# Altium footprint library SMD Active.PcbLib: 72 footprints (part 3 of 8)
Each footprint in its own frame and in the unit in brackets; x right, y up, seen from the top. Pads: shape width x height; smd on the part's side, far side on the other; paste and mask are expansions set on the pad; w line width, h text height; cw(c..) or ccw(c..) is an arc to the next point about the centre after c.
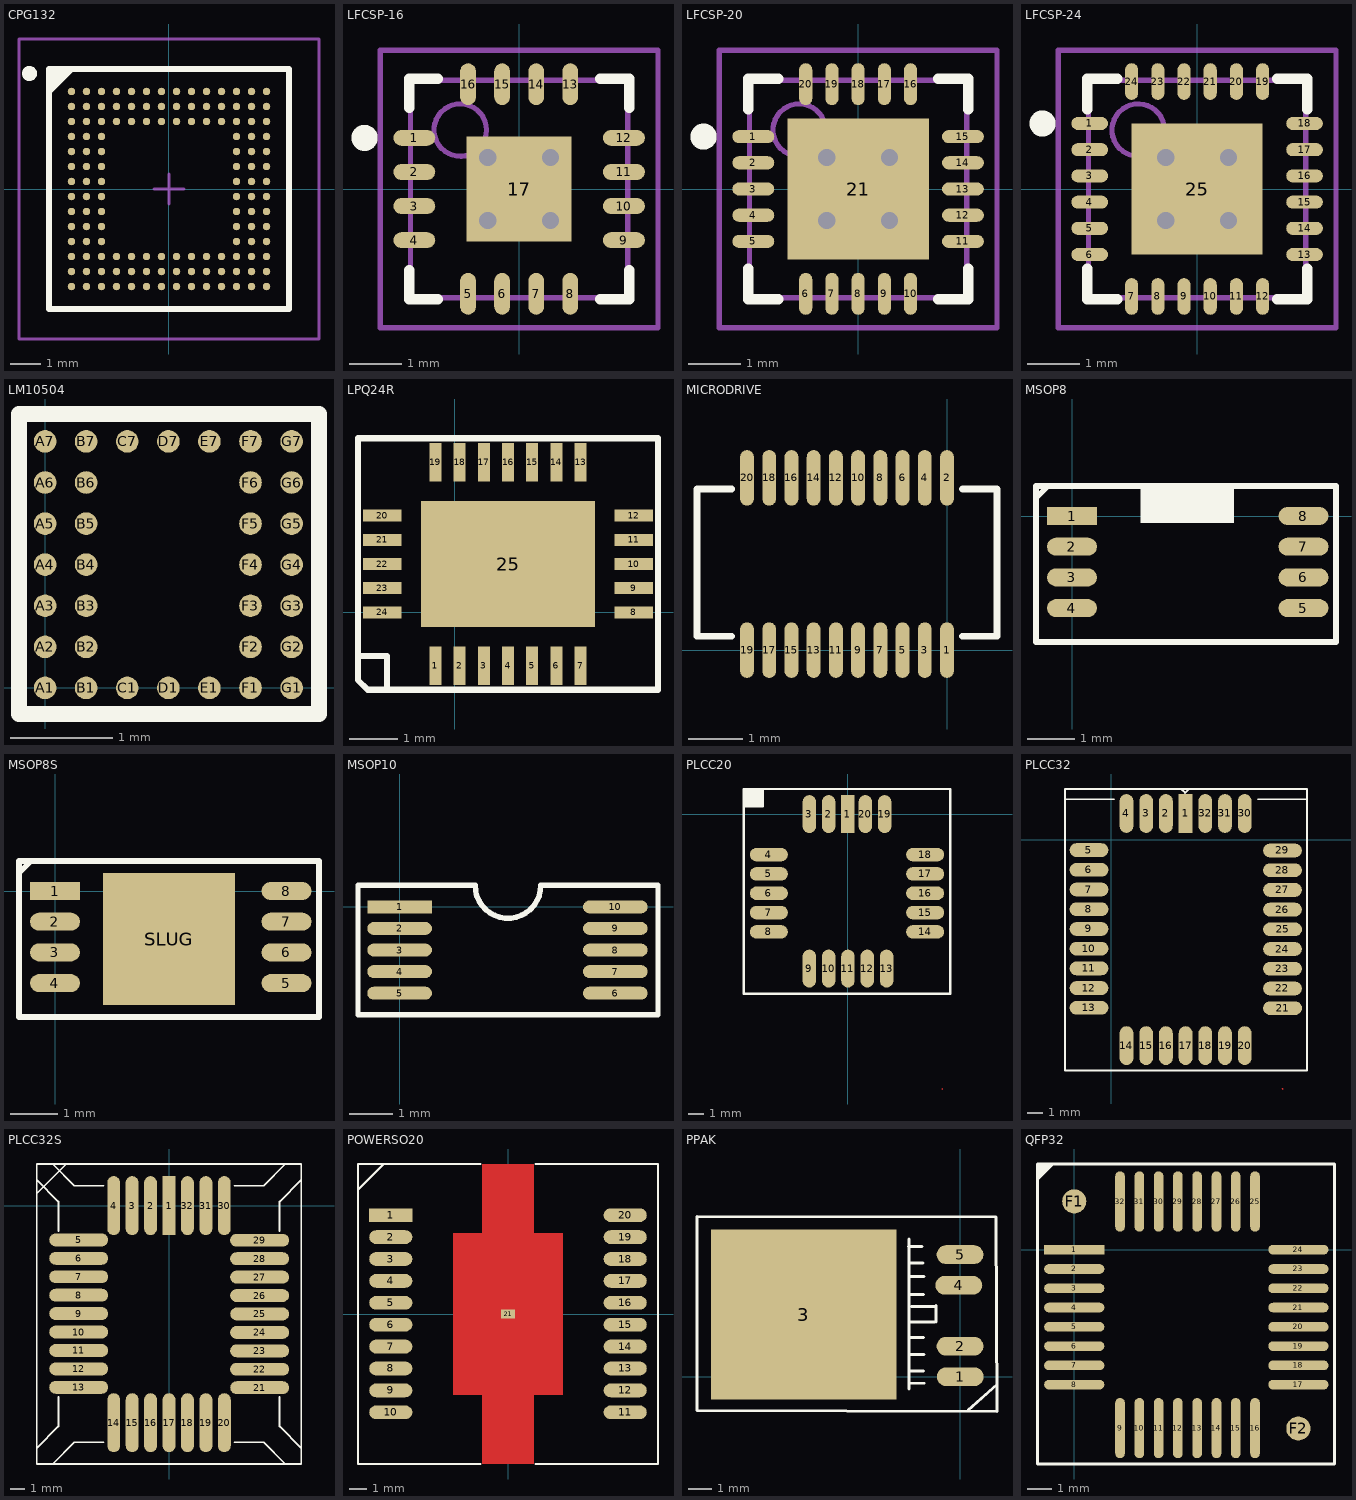
[diagram p2: the footprints below, top view; thin cyan lines are the x and y axes]

## CPG132 [mm] "BGA, 132-Leads, Body 8x8mm, Pitch 0.5mm"
height 1.1
pads (132):
  round 0.25 smd: A1(-3.25,3.25) A2(-2.75,3.25) A3(-2.25,3.25) A4(-1.75,3.25) A5(-1.25,3.25) A6(-0.75,3.25) A7(-0.25,3.25) A8(0.25,3.25) A9(0.75,3.25) A10(1.25,3.25) A11(1.75,3.25) A12(2.25,3.25) A13(2.75,3.25) A14(3.25,3.25) B1(-3.25,2.75) B2(-2.75,2.75) B3(-2.25,2.75) B4(-1.75,2.75) B5(-1.25,2.75) B6(-0.75,2.75) B7(-0.25,2.75) B8(0.25,2.75) B9(0.75,2.75) B10(1.25,2.75) B11(1.75,2.75) B12(2.25,2.75) B13(2.75,2.75) B14(3.25,2.75) C1(-3.25,2.25) C2(-2.75,2.25) C3(-2.25,2.25) C4(-1.75,2.25) C5(-1.25,2.25) C6(-0.75,2.25) C7(-0.25,2.25) C8(0.25,2.25) C9(0.75,2.25) C10(1.25,2.25) C11(1.75,2.25) C12(2.25,2.25) C13(2.75,2.25) C14(3.25,2.25) D1(-3.25,1.75) D2(-2.75,1.75) D3(-2.25,1.75) D12(2.25,1.75) D13(2.75,1.75) D14(3.25,1.75) E1(-3.25,1.25) E2(-2.75,1.25) E3(-2.25,1.25) E12(2.25,1.25) E13(2.75,1.25) E14(3.25,1.25) F1(-3.25,0.75) F2(-2.75,0.75) F3(-2.25,0.75) F12(2.25,0.75) F13(2.75,0.75) F14(3.25,0.75) G1(-3.25,0.25) G2(-2.75,0.25) G3(-2.25,0.25) G12(2.25,0.25) G13(2.75,0.25) G14(3.25,0.25) H1(-3.25,-0.25) H2(-2.75,-0.25) H3(-2.25,-0.25) H12(2.25,-0.25) H13(2.75,-0.25) H14(3.25,-0.25) J1(-3.25,-0.75) J2(-2.75,-0.75) J3(-2.25,-0.75) J12(2.25,-0.75) J13(2.75,-0.75) J14(3.25,-0.75) K1(-3.25,-1.25) K2(-2.75,-1.25) K3(-2.25,-1.25) K12(2.25,-1.25) K13(2.75,-1.25) K14(3.25,-1.25) L1(-3.25,-1.75) L2(-2.75,-1.75) L3(-2.25,-1.75) L12(2.25,-1.75) L13(2.75,-1.75) L14(3.25,-1.75) M1(-3.25,-2.25) M2(-2.75,-2.25) M3(-2.25,-2.25) M4(-1.75,-2.25) M5(-1.25,-2.25) M6(-0.75,-2.25) M7(-0.25,-2.25) M8(0.25,-2.25) M9(0.75,-2.25) M10(1.25,-2.25) M11(1.75,-2.25) M12(2.25,-2.25) M13(2.75,-2.25) M14(3.25,-2.25) N1(-3.25,-2.75) N2(-2.75,-2.75) N3(-2.25,-2.75) N4(-1.75,-2.75) N5(-1.25,-2.75) N6(-0.75,-2.75) N7(-0.25,-2.75) N8(0.25,-2.75) N9(0.75,-2.75) N10(1.25,-2.75) N11(1.75,-2.75) N12(2.25,-2.75) N13(2.75,-2.75) N14(3.25,-2.75) P1(-3.25,-3.25) P2(-2.75,-3.25) P3(-2.25,-3.25) P4(-1.75,-3.25) P5(-1.25,-3.25) P6(-0.75,-3.25) P7(-0.25,-3.25) P8(0.25,-3.25) P9(0.75,-3.25) P10(1.25,-3.25) P11(1.75,-3.25) P12(2.25,-3.25) P13(2.75,-3.25) P14(3.25,-3.25)
Top Overlay:
  circle w0.25: c-4.65,3.85 r0.125
  region: -3.242,4 -4,3.242 -4,4
  lines w0.2: -4,3.242 -3.242,4 ; -4,-4 -4,4 4,4 4,-4 -4,-4
Mechanical 13:
  lines w0.1: -4,-4 -4,4 4,4 4,-4 -4,-4
Mechanical 15:
  lines w0.1: -0.5,0 0.5,0 ; 0,-0.5 0,0.5 ; -5,-5 -5,5 5,5 5,-5 -5,-5
3D body: height 0.23, standoff -0.03, extent 1.119,3.126 1.372,3.378
3D body: height 0.23, standoff -0.03, extent 1.119,2.618 1.372,2.87
3D body: height 0.23, standoff -0.03, extent 1.119,2.135 1.372,2.388
3D body: height 0.23, standoff -0.03, extent 1.627,2.135 1.88,2.388
3D body: height 0.23, standoff -0.03, extent 1.627,2.618 1.88,2.87
3D body: height 0.23, standoff -0.03, extent 1.627,3.126 1.88,3.378
3D body: height 0.23, standoff -0.03, extent 0.636,2.135 0.889,2.388
3D body: height 0.23, standoff -0.03, extent 0.636,2.618 0.889,2.87
3D body: height 0.23, standoff -0.03, extent 0.636,3.126 0.889,3.378
3D body: height 0.23, standoff -0.03, extent 0.128,2.135 0.381,2.388
3D body: height 0.23, standoff -0.03, extent 0.128,2.618 0.381,2.87
3D body: height 0.23, standoff -0.03, extent 0.128,3.126 0.381,3.378
3D body: height 0.23, standoff -0.03, extent -0.38,2.135 -0.127,2.388
3D body: height 0.23, standoff -0.03, extent -0.38,2.618 -0.127,2.87
3D body: height 0.23, standoff -0.03, extent -0.38,3.126 -0.127,3.378
3D body: height 0.23, standoff -0.03, extent -0.888,2.135 -0.635,2.388
3D body: height 0.23, standoff -0.03, extent -0.888,2.618 -0.635,2.87
3D body: height 0.23, standoff -0.03, extent -0.888,3.126 -0.635,3.378
3D body: height 0.23, standoff -0.03, extent -1.371,2.135 -1.118,2.388
3D body: height 0.23, standoff -0.03, extent -1.371,2.618 -1.118,2.87
3D body: height 0.23, standoff -0.03, extent -1.371,3.126 -1.118,3.378
3D body: height 0.23, standoff -0.03, extent -1.879,2.135 -1.626,2.388
3D body: height 0.23, standoff -0.03, extent -1.879,2.618 -1.626,2.87
3D body: height 0.23, standoff -0.03, extent -1.879,3.126 -1.626,3.378
3D body: height 0.23, standoff -0.03, extent -2.387,2.135 -2.134,2.388
3D body: height 0.23, standoff -0.03, extent -2.387,2.618 -2.134,2.87
3D body: height 0.23, standoff -0.03, extent -2.387,3.126 -2.134,3.378
3D body: height 0.23, standoff -0.03, extent -2.869,2.135 -2.616,2.388
3D body: height 0.23, standoff -0.03, extent -2.869,2.618 -2.616,2.87
3D body: height 0.23, standoff -0.03, extent -2.869,3.126 -2.616,3.378
3D body: height 0.23, standoff -0.03, extent -3.377,2.135 -3.124,2.388
3D body: height 0.23, standoff -0.03, extent -3.377,2.618 -3.124,2.87
3D body: height 0.23, standoff -0.03, extent -3.377,3.126 -3.124,3.378
3D body: height 0.23, standoff -0.03, extent 3.126,-1.372 3.378,-1.119
3D body: height 0.23, standoff -0.03, extent 2.618,-1.372 2.87,-1.119
3D body: height 0.23, standoff -0.03, extent 2.135,-1.372 2.388,-1.119
3D body: height 0.23, standoff -0.03, extent 2.135,-1.88 2.388,-1.627
3D body: height 0.23, standoff -0.03, extent 2.618,-1.88 2.87,-1.627
3D body: height 0.23, standoff -0.03, extent 3.126,-1.88 3.378,-1.627
3D body: height 0.23, standoff -0.03, extent 2.135,-0.889 2.388,-0.636
3D body: height 0.23, standoff -0.03, extent 2.618,-0.889 2.87,-0.636
3D body: height 0.23, standoff -0.03, extent 3.126,-0.889 3.378,-0.636
3D body: height 0.23, standoff -0.03, extent 2.135,-0.381 2.388,-0.128
3D body: height 0.23, standoff -0.03, extent 2.618,-0.381 2.87,-0.128
3D body: height 0.23, standoff -0.03, extent 3.126,-0.381 3.378,-0.128
3D body: height 0.23, standoff -0.03, extent 2.135,0.127 2.388,0.38
3D body: height 0.23, standoff -0.03, extent 2.618,0.127 2.87,0.38
3D body: height 0.23, standoff -0.03, extent 3.126,0.127 3.378,0.38
3D body: height 0.23, standoff -0.03, extent 2.135,0.635 2.388,0.888
3D body: height 0.23, standoff -0.03, extent 2.618,0.635 2.87,0.888
3D body: height 0.23, standoff -0.03, extent 3.126,0.635 3.378,0.888
3D body: height 0.23, standoff -0.03, extent 2.135,1.118 2.388,1.371
3D body: height 0.23, standoff -0.03, extent 2.618,1.118 2.87,1.371
3D body: height 0.23, standoff -0.03, extent 3.126,1.118 3.378,1.371
3D body: height 0.23, standoff -0.03, extent 2.135,1.626 2.388,1.879
3D body: height 0.23, standoff -0.03, extent 2.618,1.626 2.87,1.879
3D body: height 0.23, standoff -0.03, extent 3.126,1.626 3.378,1.879
3D body: height 0.23, standoff -0.03, extent 2.135,2.134 2.388,2.387
3D body: height 0.23, standoff -0.03, extent 2.618,2.134 2.87,2.387
3D body: height 0.23, standoff -0.03, extent 3.126,2.134 3.378,2.387
3D body: height 0.23, standoff -0.03, extent 2.135,2.616 2.388,2.869
3D body: height 0.23, standoff -0.03, extent 2.618,2.616 2.87,2.869
3D body: height 0.23, standoff -0.03, extent 3.126,2.616 3.378,2.869
3D body: height 0.23, standoff -0.03, extent 2.135,3.124 2.388,3.377
3D body: height 0.23, standoff -0.03, extent 2.618,3.124 2.87,3.377
3D body: height 0.23, standoff -0.03, extent 3.126,3.124 3.378,3.377
3D body: height 0.23, standoff -0.03, extent -1.372,-3.378 -1.119,-3.126
3D body: height 0.23, standoff -0.03, extent -1.372,-2.87 -1.119,-2.618
3D body: height 0.23, standoff -0.03, extent -1.372,-2.388 -1.119,-2.135
3D body: height 0.23, standoff -0.03, extent -1.88,-2.388 -1.627,-2.135
3D body: height 0.23, standoff -0.03, extent -1.88,-2.87 -1.627,-2.618
3D body: height 0.23, standoff -0.03, extent -1.88,-3.378 -1.627,-3.126
3D body: height 0.23, standoff -0.03, extent -0.889,-2.388 -0.636,-2.135
3D body: height 0.23, standoff -0.03, extent -0.889,-2.87 -0.636,-2.618
3D body: height 0.23, standoff -0.03, extent -0.889,-3.378 -0.636,-3.126
3D body: height 0.23, standoff -0.03, extent -0.381,-2.388 -0.128,-2.135
3D body: height 0.23, standoff -0.03, extent -0.381,-2.87 -0.128,-2.618
3D body: height 0.23, standoff -0.03, extent -0.381,-3.378 -0.128,-3.126
3D body: height 0.23, standoff -0.03, extent 0.127,-2.388 0.38,-2.135
3D body: height 0.23, standoff -0.03, extent 0.127,-2.87 0.38,-2.618
3D body: height 0.23, standoff -0.03, extent 0.127,-3.378 0.38,-3.126
3D body: height 0.23, standoff -0.03, extent 0.635,-2.388 0.888,-2.135
3D body: height 0.23, standoff -0.03, extent 0.635,-2.87 0.888,-2.618
3D body: height 0.23, standoff -0.03, extent 0.635,-3.378 0.888,-3.126
3D body: height 0.23, standoff -0.03, extent 1.118,-2.388 1.371,-2.135
3D body: height 0.23, standoff -0.03, extent 1.118,-2.87 1.371,-2.618
3D body: height 0.23, standoff -0.03, extent 1.118,-3.378 1.371,-3.126
3D body: height 0.23, standoff -0.03, extent 1.626,-2.388 1.879,-2.135
3D body: height 0.23, standoff -0.03, extent 1.626,-2.87 1.879,-2.618
3D body: height 0.23, standoff -0.03, extent 1.626,-3.378 1.879,-3.126
3D body: height 0.23, standoff -0.03, extent 2.134,-2.388 2.387,-2.135
3D body: height 0.23, standoff -0.03, extent 2.134,-2.87 2.387,-2.618
3D body: height 0.23, standoff -0.03, extent 2.134,-3.378 2.387,-3.126
3D body: height 0.23, standoff -0.03, extent 2.616,-2.388 2.869,-2.135
3D body: height 0.23, standoff -0.03, extent 2.616,-2.87 2.869,-2.618
3D body: height 0.23, standoff -0.03, extent 2.616,-3.378 2.869,-3.126
3D body: height 0.23, standoff -0.03, extent 3.124,-2.388 3.377,-2.135
3D body: height 0.23, standoff -0.03, extent 3.124,-2.87 3.377,-2.618
3D body: height 0.23, standoff -0.03, extent 3.124,-3.378 3.377,-3.126
3D body: height 0.23, standoff -0.03, extent -3.378,-3.377 -3.126,-3.124
3D body: height 0.23, standoff -0.03, extent -2.87,-3.377 -2.618,-3.124
3D body: height 0.23, standoff -0.03, extent -2.388,-3.377 -2.135,-3.124
3D body: height 0.23, standoff -0.03, extent -3.378,-2.869 -3.126,-2.616
3D body: height 0.23, standoff -0.03, extent -2.87,-2.869 -2.618,-2.616
3D body: height 0.23, standoff -0.03, extent -2.388,-2.869 -2.135,-2.616
3D body: height 0.23, standoff -0.03, extent -3.378,-2.387 -3.126,-2.134
3D body: height 0.23, standoff -0.03, extent -2.87,-2.387 -2.618,-2.134
3D body: height 0.23, standoff -0.03, extent -2.388,-2.387 -2.135,-2.134
3D body: height 0.23, standoff -0.03, extent -3.378,-1.879 -3.126,-1.626
3D body: height 0.23, standoff -0.03, extent -2.87,-1.879 -2.618,-1.626
3D body: height 0.23, standoff -0.03, extent -2.388,-1.879 -2.135,-1.626
3D body: height 0.23, standoff -0.03, extent -3.378,-1.371 -3.126,-1.118
3D body: height 0.23, standoff -0.03, extent -2.87,-1.371 -2.618,-1.118
3D body: height 0.23, standoff -0.03, extent -2.388,-1.371 -2.135,-1.118
3D body: height 0.23, standoff -0.03, extent -3.378,-0.888 -3.126,-0.635
3D body: height 0.23, standoff -0.03, extent -2.87,-0.888 -2.618,-0.635
3D body: height 0.23, standoff -0.03, extent -2.388,-0.888 -2.135,-0.635
3D body: height 0.23, standoff -0.03, extent -3.378,-0.38 -3.126,-0.127
3D body: height 0.23, standoff -0.03, extent -2.87,-0.38 -2.618,-0.127
3D body: height 0.23, standoff -0.03, extent -2.388,-0.38 -2.135,-0.127
3D body: height 0.23, standoff -0.03, extent -3.378,0.128 -3.126,0.381
3D body: height 0.23, standoff -0.03, extent -2.87,0.128 -2.618,0.381
3D body: height 0.23, standoff -0.03, extent -2.388,0.128 -2.135,0.381
3D body: height 0.23, standoff -0.03, extent -3.378,0.636 -3.126,0.889
3D body: height 0.23, standoff -0.03, extent -2.87,0.636 -2.618,0.889
3D body: height 0.23, standoff -0.03, extent -2.388,0.636 -2.135,0.889
3D body: height 0.23, standoff -0.03, extent -3.378,1.627 -3.126,1.88
3D body: height 0.23, standoff -0.03, extent -2.87,1.627 -2.618,1.88
3D body: height 0.23, standoff -0.03, extent -2.388,1.627 -2.135,1.88
3D body: height 0.23, standoff -0.03, extent -2.388,1.119 -2.135,1.372
3D body: height 0.23, standoff -0.03, extent -2.87,1.119 -2.618,1.372
3D body: height 0.23, standoff -0.03, extent -3.378,1.119 -3.126,1.372
3D body: height 1.07, standoff 0.25, extent -3.556,-3.556 3.556,3.556
3D body: height 0.48, standoff 0.46, extent -4,3.111 -3.111,4
3D body: height 0.46, standoff 0.2, extent -4,-4 4,4

## LFCSP-16 [mm]
height 0.8
pads (17):
  oval 0.8x0.3 smd: 1(-2,0.975) 2(-2,0.325) 3(-2,-0.325) 4(-2,-0.975) 9(2,-0.975) 10(2,-0.325) 11(2,0.325) 12(2,0.975)
  oval 0.3x0.8 smd: 5(-0.975,-2) 6(-0.325,-2) 7(0.325,-2) 8(0.975,-2) 13(0.975,2) 14(0.325,2) 15(-0.325,2) 16(-0.975,2)
  rect 2x2 smd: 17(0,0)
via 0.6,-0.6 diameter 0.66 hole 0.33
via -0.6,-0.6 diameter 0.66 hole 0.33
via 0.6,0.6 diameter 0.66 hole 0.33
via -0.6,0.6 diameter 0.66 hole 0.33
Top Overlay:
  circle w0.25: c-2.95,0.975 r0.125
  lines w0.2: -2.1,-1.55 -2.1,-2.1 -1.55,-2.1 ; -2.1,1.55 -2.1,2.1 -1.55,2.1 ; 1.55,-2.1 2.1,-2.1 2.1,-1.55 ; 1.55,2.1 2.1,2.1 2.1,1.55
Mechanical 13:
  circle w0.1: c-1.125,1.125 r0.5
  lines w0.1: -2.075,-2.075 2.075,-2.075 2.075,2.075 -2.075,2.075 -2.075,-2.075
Mechanical 15:
  lines w0.1: -0.5,0 0.5,0 ; 0,-0.5 0,0.5 ; -2.65,-2.65 2.65,-2.65 2.65,2.65 -2.65,2.65 -2.65,-2.65
3D body: height 0.1, standoff 0.01, extent -2.075,-2.075 2.075,2.075
3D body: height 0.81, standoff 0.8, extent -1.707,0.965 -1.189,1.483
3D body: height 0.8, standoff 0.1, extent -2.007,-2.007 2.007,2.007

## LFCSP-20 [mm]
height 0.8
pads (21):
  oval 0.8x0.25 smd: 1(-2,1) 2(-2,0.5) 3(-2,0) 4(-2,-0.5) 5(-2,-1) 11(2,-1) 12(2,-0.5) 13(2,0) 14(2,0.5) 15(2,1)
  oval 0.25x0.8 smd: 6(-1,-2) 7(-0.5,-2) 8(0,-2) 9(0.5,-2) 10(1,-2) 16(1,2) 17(0.5,2) 18(0,2) 19(-0.5,2) 20(-1,2)
  rect 2.7x2.7 smd: 21(0,0)
via -0.6,0.6 diameter 0.66 hole 0.33
via 0.6,0.6 diameter 0.66 hole 0.33
via -0.6,-0.6 diameter 0.66 hole 0.33
via 0.6,-0.6 diameter 0.66 hole 0.33
Top Overlay:
  circle w0.25: c-2.95,1 r0.125
  lines w0.2: -2.1,-1.525 -2.1,-2.1 -1.525,-2.1 ; -2.1,1.525 -2.1,2.1 -1.525,2.1 ; 1.525,-2.1 2.1,-2.1 2.1,-1.525 ; 1.525,2.1 2.1,2.1 2.1,1.525
Mechanical 13:
  circle w0.1: c-1.125,1.125 r0.5
  lines w0.1: -2.075,-2.075 -2.075,2.075 2.075,2.075 2.075,-2.075 -2.075,-2.075
Mechanical 15:
  lines w0.1: -0.5,0 0.5,0 ; 0,-0.5 0,0.5 ; -2.65,-2.65 -2.65,2.65 2.65,2.65 2.65,-2.65 -2.65,-2.65
3D body: height 0.81, standoff 0.8, extent -1.707,0.965 -1.189,1.483
3D body: height 0.8, standoff 0.1, extent -2.007,-2.007 2.007,2.007
3D body: height 0.1, standoff 0.01, extent -2.108,-2.067 2.042,2.083

## LFCSP-24 [mm] "QFN, 24-Leads, Body 4.2x4.2mm (max), Pitch 0.50mm, IPC Medium Density"
height 0.8
pads (25):
  oval 0.7x0.25 smd: 1(-2.05,1.25) 2(-2.05,0.75) 3(-2.05,0.25) 4(-2.05,-0.25) 5(-2.05,-0.75) 6(-2.05,-1.25) 13(2.05,-1.25) 14(2.05,-0.75) 15(2.05,-0.25) 16(2.05,0.25) 17(2.05,0.75) 18(2.05,1.25)
  oval 0.25x0.7 smd: 7(-1.25,-2.05) 8(-0.75,-2.05) 9(-0.25,-2.05) 10(0.25,-2.05) 11(0.75,-2.05) 12(1.25,-2.05) 19(1.25,2.05) 20(0.75,2.05) 21(0.25,2.05) 22(-0.25,2.05) 23(-0.75,2.05) 24(-1.25,2.05)
  rect 2.5x2.5 smd: 25(0,0)
via 0.6,-0.6 diameter 0.66 hole 0.33
via -0.6,-0.6 diameter 0.66 hole 0.33
via 0.6,0.6 diameter 0.66 hole 0.33
via -0.6,0.6 diameter 0.66 hole 0.33
Top Overlay:
  circle w0.25: c-2.95,1.25 r0.125
  lines w0.2: -2.1,-1.525 -2.1,-2.1 -1.525,-2.1 ; -2.1,1.525 -2.1,2.1 -1.525,2.1 ; 1.525,-2.1 2.1,-2.1 2.1,-1.525 ; 1.525,2.1 2.1,2.1 2.1,1.525
Mechanical 13:
  circle w0.1: c-1.125,1.125 r0.5
  lines w0.1: -2.075,-2.075 2.075,-2.075 2.075,2.075 -2.075,2.075 -2.075,-2.075
Mechanical 15:
  lines w0.1: -0.5,0 0.5,0 ; 0,-0.5 0,0.5 ; -2.65,-2.65 2.65,-2.65 2.65,2.65 -2.65,2.65 -2.65,-2.65
3D body: height 0.1, standoff 0.01, extent -2.075,-2.075 2.075,2.075
3D body: height 0.8, standoff 0.1, extent -2.007,-2.007 2.007,2.007
3D body: height 0.81, standoff 0.8, extent -1.707,0.965 -1.189,1.483

## LM10504 [mm]
pads (34):
  round 0.22 smd mask+0.051: A1(0,0) A2(0,0.4) A3(0,0.8) A4(0,1.2) A5(0,1.6) A6(0,2) A7(0,2.4) B1(0.4,0) B2(0.4,0.4) B3(0.4,0.8) B4(0.4,1.2) B5(0.4,1.6) B6(0.4,2) B7(0.4,2.4) C1(0.8,0) C7(0.8,2.4) D1(1.2,0) D7(1.2,2.4) E1(1.6,0) E7(1.6,2.4) F1(2,0) F2(2,0.4) F3(2,0.8) F4(2,1.2) F5(2,1.6) F6(2,2) F7(2,2.4) G1(2.4,0) G2(2.4,0.4) G3(2.4,0.8) G4(2.4,1.2) G5(2.4,1.6) G6(2.4,2) G7(2.4,2.4)
Top Overlay:
  lines w0.152: -0.254,-0.254 -0.254,2.667 2.667,2.667 2.667,-0.254 -0.254,-0.254

## LPQ24R [mm]
pads (25):
  rect 0.25x0.8 smd: 1(-0.4,-1.1) 2(0.1,-1.1) 3(0.6,-1.1) 4(1.1,-1.1) 5(1.6,-1.1) 6(2.1,-1.1) 7(2.6,-1.1) 13(2.6,3.1) 14(2.1,3.1) 15(1.6,3.1) 16(1.1,3.1) 17(0.6,3.1) 18(0.1,3.1) 19(-0.4,3.1)
  rect 0.8x0.25 smd: 8(3.7,0) 9(3.7,0.5) 10(3.7,1) 11(3.7,1.5) 12(3.7,2) 20(-1.5,2) 21(-1.5,1.5) 22(-1.5,1) 23(-1.5,0.5) 24(-1.5,0)
  rect 3.6x2.6 smd: 25(1.1,1)
Top Overlay:
  lines w0.127: -2,-0.9 -1.4,-0.9 -1.4,-1.6 ; -2,-1.4 -1.8,-1.6 4.2,-1.6 4.2,3.6 -2,3.6 -2,-1.4
3D body: height 1.04, standoff 1.02, extent -0.508,-1.029 -0.292,-0.718
3D body: height 1.02, standoff 0, extent -1.486,-1.079 3.683,3.086
3D body: height 0.38, standoff 0, extent -0.508,2.718 -0.292,3.099
3D body: height 0.38, standoff 0, extent -0.008,2.718 0.208,3.099
3D body: height 0.38, standoff 0, extent 0.492,2.718 0.708,3.099
3D body: height 0.38, standoff 0, extent 0.992,2.718 1.208,3.099
3D body: height 0.38, standoff 0, extent 1.492,2.718 1.708,3.099
3D body: height 0.38, standoff 0, extent 1.992,2.718 2.208,3.099
3D body: height 0.38, standoff 0, extent 2.492,2.718 2.708,3.099
3D body: height 0.38, standoff 0, extent 3.318,1.892 3.699,2.108
3D body: height 0.38, standoff 0, extent 3.318,1.392 3.699,1.608
3D body: height 0.38, standoff 0, extent 3.318,0.892 3.699,1.108
3D body: height 0.38, standoff 0, extent 3.318,0.392 3.699,0.608
3D body: height 0.38, standoff 0, extent 3.318,-0.108 3.699,0.108
3D body: height 0.38, standoff 0, extent 2.492,-1.099 2.708,-0.718
3D body: height 0.38, standoff 0, extent 1.992,-1.099 2.208,-0.718
3D body: height 0.38, standoff 0, extent 1.492,-1.099 1.708,-0.718
3D body: height 0.38, standoff 0, extent 0.992,-1.099 1.208,-0.718
3D body: height 0.38, standoff 0, extent 0.492,-1.099 0.708,-0.718
3D body: height 0.38, standoff 0, extent -0.008,-1.099 0.208,-0.718
3D body: height 0.38, standoff 0, extent -0.508,-1.099 -0.292,-0.718
3D body: height 0.38, standoff 0, extent -1.499,-0.108 -1.118,0.108
3D body: height 0.38, standoff 0, extent -1.499,0.392 -1.118,0.608
3D body: height 0.38, standoff 0, extent -1.499,0.892 -1.118,1.108
3D body: height 0.38, standoff 0, extent -1.499,1.392 -1.118,1.608
3D body: height 0.38, standoff 0, extent -1.499,1.892 -1.118,2.108

## MICRODRIVE [mil]
pads (20):
  oval 10x40 smd: 1(0,0) 2(0,124) 3(-16,0) 4(-16,124) 5(-32,0) 6(-32,124) 7(-48,0) 8(-48,124) 9(-64,0) 10(-64,124) 11(-80,0) 12(-80,124) 13(-96,0) 14(-96,124) 15(-112,0) 16(-112,124) 17(-128,0) 18(-128,124) 19(-144,0) 20(-144,124)
Top Overlay:
  lines w5: -155,10 -180,10 -180,116 -155,116 ; 11,10 36,10 36,116 11,116

## MSOP8 [mm]
pads (8):
  rect 1.06x0.38 smd: 1(0,0)
  oval 1.06x0.38 smd: 2(0,-0.65) 3(0,-1.3) 4(0,-1.95) 5(4.9,-1.95) 6(4.9,-1.3) 7(4.9,-0.65) 8(4.9,0)
Top Overlay:
  rectangle: 1.448,-0.152 3.429,0.635
  lines w0.127: -0.762,0.381 -0.508,0.635 -0.762,0.635 ; -0.762,0.635 5.588,0.635 5.588,-2.667 -0.762,-2.667 -0.762,0.635
3D body: height 1.02, standoff 0, extent 0.508,-2.667 4.369,0.635
3D body: height 0.3, standoff 0, extent -0.229,-0.152 0.33,0.152
3D body: height 0.64, standoff 0.3, extent 0.114,-0.152 0.94,0.152
3D body: height 1.04, standoff 1.02, extent 1.448,-0.152 3.429,0.483
3D body: height 0.64, standoff 0.3, extent 0.114,-0.813 0.94,-0.508
3D body: height 0.3, standoff 0, extent -0.229,-0.813 0.33,-0.508
3D body: height 0.64, standoff 0.3, extent 0.114,-1.448 0.94,-1.143
3D body: height 0.3, standoff 0, extent -0.229,-1.448 0.33,-1.143
3D body: height 0.64, standoff 0.3, extent 0.114,-2.108 0.94,-1.803
3D body: height 0.3, standoff 0, extent -0.229,-2.108 0.33,-1.803
3D body: height 0.3, standoff 0, extent 4.597,-0.152 5.156,0.152
3D body: height 0.64, standoff 0.3, extent 3.988,-0.152 4.813,0.152
3D body: height 0.3, standoff 0, extent 4.597,-0.813 5.156,-0.508
3D body: height 0.64, standoff 0.3, extent 3.988,-0.813 4.813,-0.508
3D body: height 0.3, standoff 0, extent 4.597,-1.448 5.156,-1.143
3D body: height 0.64, standoff 0.3, extent 3.988,-1.448 4.813,-1.143
3D body: height 0.64, standoff 0.3, extent 3.988,-2.108 4.813,-1.803
3D body: height 0.3, standoff 0, extent 4.597,-2.108 5.156,-1.803

## MSOP8S [mm]
pads (9):
  rect 1.06x0.38 smd: 1(0,0)
  oval 1.06x0.38 smd: 2(0,-0.65) 3(0,-1.3) 4(0,-1.95) 5(4.9,-1.95) 6(4.9,-1.3) 7(4.9,-0.65) 8(4.9,0)
  rect 2.794x2.794 smd: SLUG(2.413,-1.016)
Top Overlay:
  lines w0.127: -0.762,0.381 -0.508,0.635 -0.762,0.635 ; -0.762,0.635 5.588,0.635 5.588,-2.667 -0.762,-2.667 -0.762,0.635
3D body: height 1.02, standoff 0, extent 0.483,-2.667 4.343,0.635
3D body: height 0.3, standoff 0, extent -0.254,-0.152 0.305,0.152
3D body: height 0.64, standoff 0.3, extent 0.089,-0.152 0.914,0.152
3D body: height 1.04, standoff 1.02, extent 1.422,-0.152 3.404,0.483
3D body: height 0.64, standoff 0.3, extent 0.089,-0.813 0.914,-0.508
3D body: height 0.3, standoff 0, extent -0.254,-0.813 0.305,-0.508
3D body: height 0.64, standoff 0.3, extent 0.089,-1.448 0.914,-1.143
3D body: height 0.3, standoff 0, extent -0.254,-1.448 0.305,-1.143
3D body: height 0.64, standoff 0.3, extent 0.089,-2.108 0.914,-1.803
3D body: height 0.3, standoff 0, extent -0.254,-2.108 0.305,-1.803
3D body: height 0.3, standoff 0, extent 4.572,-0.152 5.131,0.152
3D body: height 0.64, standoff 0.3, extent 3.962,-0.152 4.788,0.152
3D body: height 0.3, standoff 0, extent 4.572,-0.813 5.131,-0.508
3D body: height 0.64, standoff 0.3, extent 3.962,-0.813 4.788,-0.508
3D body: height 0.3, standoff 0, extent 4.572,-1.448 5.131,-1.143
3D body: height 0.64, standoff 0.3, extent 3.962,-1.448 4.788,-1.143
3D body: height 0.64, standoff 0.3, extent 3.962,-2.108 4.788,-1.803
3D body: height 0.3, standoff 0, extent 4.572,-2.108 5.131,-1.803

## MSOP10 [mm]
pads (10):
  rect 1.5x0.3 smd: 1(0,0)
  oval 1.5x0.3 smd: 2(0,-0.5) 3(0,-1) 4(0,-1.5) 5(0,-2) 6(5,-2) 7(5,-1.5) 8(5,-1) 9(5,-0.5) 10(5,0)
Top Overlay:
  lines w0.127: -0.965,-2.3 -0.965,0.2 ; 1.585,-2.5 5.99,-2.5 5.99,0.5 3.275,0.5 ; 3.274,0.5 cw(c2.512,0.5) 1.75,0.5 -0.965,0.5 -0.965,-2.5 3.44,-2.5

## PLCC20 [mil]
pads (20):
  rect 35x98.43 smd: 1(0,0)
  oval 35x98.43 smd: 2(-50,0) 3(-100,0) 9(-100,-400) 10(-50,-400) 11(0,-400) 12(50,-400) 13(100,-400) 19(95,0) 20(45,0)
  oval 98.43x35 smd: 4(-205,-105) 5(-205,-155) 6(-205,-205) 7(-205,-255) 8(-205,-305) 14(200,-305) 15(200,-255) 16(200,-205) 17(200,-155) 18(200,-105)
Top Layer:
  lines w4: 243.86,-711.86 244,-712
Top Overlay:
  rectangle: -270,20 -220,65
  lines w6: -270,20 -220,20 -220,65 ; -270,-465 -270,65 265,65 265,-60 265,-465 30,-465 -270,-465
3D body: height 179.92, standoff -7.87, extent -208.47,-403.46 198.47,3.47

## PLCC32 [mil]
pads (32):
  rect 35x98.43 smd: 1(187.93,66.93)
  oval 35x98.43 smd: 2(137.93,66.93) 3(87.93,66.93) 4(37.93,66.93) 14(38,-522) 15(88,-522) 16(138,-522) 17(188,-522) 18(238,-522) 19(288,-522) 20(338,-522) 30(337.93,66.93) 31(287.93,66.93) 32(237.93,66.93)
  oval 98.43x35 smd: 5(-57.07,-26) 6(-57.07,-76) 7(-57.07,-126) 8(-57.07,-176) 9(-57.07,-226) 10(-57.07,-276) 11(-57.07,-326) 12(-57.07,-376) 13(-57.07,-426) 21(434,-427) 22(433.79,-377) 23(433.79,-327) 24(433.79,-277) 25(434,-227) 26(433.79,-177) 27(433.79,-127) 28(433.79,-77) 29(433.79,-27)
Top Layer:
  lines w4: 433.86,-631.86 434,-632
Top Overlay:
  lines w5: -118,83 -118,101 ; -118,103 6,103 ; 168,129 177,129 187,119 196,128 196,129 ; 372,103 496,103 ; -118,-585 -118,129 496,129 496,-585 -118,-585
3D body: height 113.7, standoff -15.9, extent -57.13,-518.43 435,68.42

## PLCC32S [mil]
pads (32):
  rect 35x160 smd: 1(0,0)
  oval 35x160 smd: 2(-50,0) 3(-100,0) 4(-150,0) 14(-149.93,-588.93) 15(-99.93,-588.93) 16(-49.93,-588.93) 17(0.07,-588.93) 18(50.07,-588.93) 19(100.07,-588.93) 20(150.07,-588.93) 30(150,0) 31(100,0) 32(50,0)
  oval 160x35 smd: 5(-245,-92.93) 6(-245,-142.93) 7(-245,-192.93) 8(-245,-242.93) 9(-245,-292.93) 10(-245,-342.93) 11(-245,-392.93) 12(-245,-442.93) 13(-245,-492.93) 21(246.07,-493.93) 22(245.86,-443.93) 23(245.86,-393.93) 24(245.86,-343.93) 25(246.07,-293.93) 26(245.86,-243.93) 27(245.86,-193.93) 28(245.86,-143.93) 29(245.86,-93.93)
Top Layer:
  lines w4: 245.93,-698.79 246.07,-698.93
Top Overlay:
  lines w5: -359,-658 -300,-599 -300,-519 ; -359,-14 -359,33 -279,113 ; -359,70 -300,11 -300,-69 ; -316,-701 -257,-642 -177,-642 ; -316,113 -257,54 -177,54 ; 177,-642 257,-642 316,-701 ; 177,54 257,54 316,113 359,113 ; 300,-519 300,-599 359,-658 ; 300,-69 300,11 359,70 ; 359,113 -359,113 -359,-701 359,-701 359,113

## POWERSO20 [mm]
pads (21):
  rect 2.5x0.8 smd: 1(-6.8,5.73)
  oval 2.5x0.8 smd: 2(-6.8,4.46) 3(-6.8,3.19) 4(-6.8,1.92) 5(-6.8,0.65) 6(-6.8,-0.62) 7(-6.8,-1.89) 8(-6.8,-3.16) 9(-6.8,-4.43) 10(-6.8,-5.7) 11(6.8,-5.7) 12(6.8,-4.43) 13(6.8,-3.16) 14(6.8,-1.89) 15(6.8,-0.62) 16(6.8,0.65) 17(6.8,1.92) 18(6.8,3.19) 19(6.8,4.46) 20(6.8,5.73)
  rect 0.8x0.508 smd: 21(0,0)
Top Layer:
  rectangle: -3.2,-4.7 3.2,4.7
  rectangle: 0,4.4 1.5,8.7
  region: 0,8.7 -1.5,8.7 -1.5,4.4 0,4.4
  rectangle: 0,-8.7 1.5,-4.4
  region: 0,-4.4 -1.5,-4.4 -1.5,-8.7 0,-8.7
Top Overlay:
  lines w0.127: -8.7,6.7 -8.7,7.2 -7.2,8.7 ; -1.6,-8.7 -8.7,-8.7 -8.7,8.7 -1.6,8.7 ; 1.6,-8.7 8.7,-8.7 8.7,8.7 1.6,8.7

## PPAK [mm]
pads (5):
  oval 2x0.8 smd: 1(0,0) 2(-0.01,1.3) 4(-0.06,3.9) 5(-0.01,5.21)
  rect 7.92x7.26 smd: 3(-6.675,2.65)
Top Overlay:
  lines w0.127: -2.2,5.56 -1.625,5.56 ; -2.195,-0.52 -2.195,5.88 ; -2.195,0.95 -1.54,0.95 ; -2.195,1.67 -1.57,1.67 ; -2.195,3.5 -1.57,3.5 ; -2.165,4.85 -1.59,4.85 ; -2.135,0.25 -1.56,0.25 ; -2.135,4.28 -1.54,4.28 ; -2.125,-0.28 -1.55,-0.28 ; -2.105,2.33 -1.105,2.33 ; -2.075,3 -1.075,3 ; -1.045,2.33 -1.045,3.03 ; 0.334,-1.436 1.568,-0.332 ; 1.558,-1.486 -11.235,-1.446 -11.225,6.841 1.528,6.811 1.56,-1.49

## QFP32 [mm]
pads (34):
  rect 2.5x0.4 smd: 1(0,0)
  oval 2.5x0.4 smd: 2(0,-0.8) 3(0,-1.6) 4(0,-2.4) 5(0,-3.2) 6(0,-4) 7(0,-4.8) 8(0,-5.6) 17(9.3,-5.6) 18(9.3,-4.8) 19(9.3,-4) 20(9.3,-3.2) 21(9.3,-2.4) 22(9.3,-1.6) 23(9.3,-0.8) 24(9.3,0)
  oval 0.4x2.5 smd: 9(1.9,-7.4) 10(2.7,-7.4) 11(3.5,-7.4) 12(4.3,-7.4) 13(5.1,-7.4) 14(5.9,-7.4) 15(6.7,-7.4) 16(7.5,-7.4) 25(7.5,2) 26(6.7,2) 27(5.9,2) 28(5.1,2) 29(4.3,2) 30(3.5,2) 31(2.7,2) 32(1.9,2)
  round 1 smd: F1(0,2.007) F2(9.296,-7.417)
Top Overlay:
  lines w0.127: -0.889,3.556 -1.524,2.921 -1.524,3.048 -1.016,3.556 -1.143,3.556 -1.524,3.175 -1.524,3.302 -1.27,3.556 -1.524,3.556 ; -1.524,3.556 -1.487,3.556 ; -1.524,3.556 10.795,3.556 10.795,-8.89 -1.524,-8.89 -1.524,3.556 ; -1.487,3.556 -1.487,3.429 -1.442,3.384 -1.315,3.384 -1.487,3.556
3D body: height 1.4, standoff -0.06, extent 0.199,-7.294 9.199,1.706